# Altium footprint library L2.PcbLib: 11 footprints
Each footprint in its own frame and in the unit in brackets; x right, y up, seen from the top. Pads: shape width x height; smd on the part's side, far side on the other; paste and mask are expansions set on the pad; w line width, h text height; cw(c..) or ccw(c..) is an arc to the next point about the centre after c.
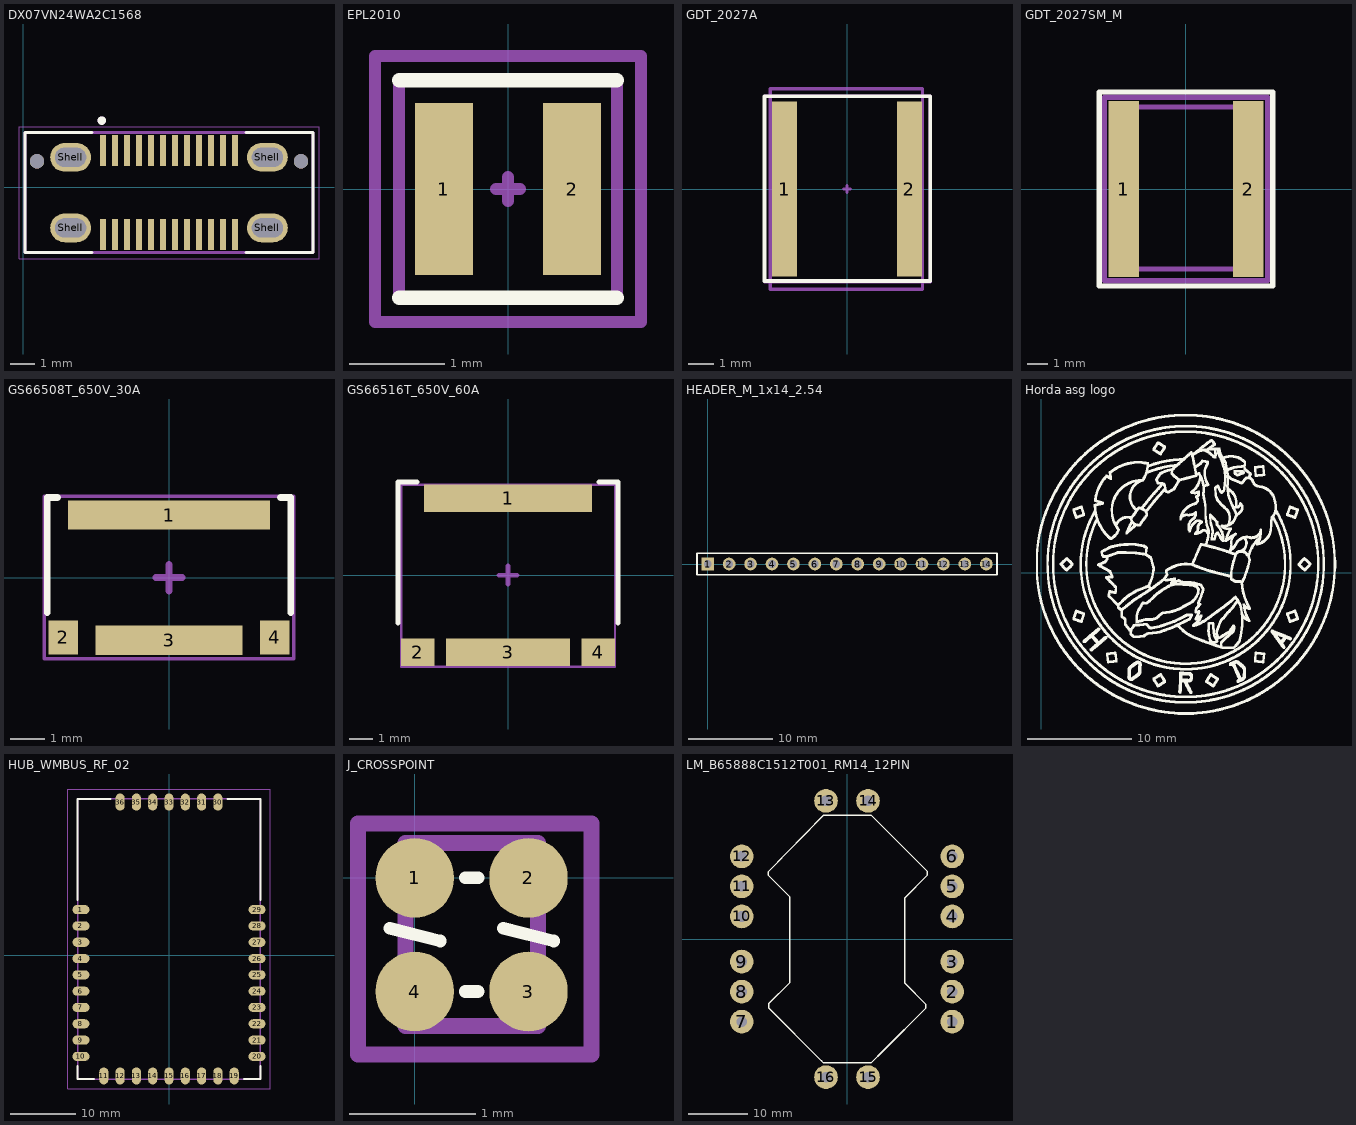
[diagram p0: the footprints below, top view; thin cyan lines are the x and y axes]

## DX07VN24WA2C1568 [mm] "USB Connector Vertical Plug 2 row SMT"
pads (30):
  rect 0.27x1.3 smd: A1(3.319,1.523) A2(3.819,1.523) A3(4.319,1.523) A4(4.819,1.523) A5(5.319,1.523) A6(5.819,1.523) A7(6.319,1.523) A8(6.819,1.523) A9(7.319,1.523) A10(7.819,1.523) A11(8.319,1.523) A12(8.819,1.523) B1(8.819,-1.977) B2(8.319,-1.977) B3(7.819,-1.977) B4(7.319,-1.977) B5(6.819,-1.977) B6(6.319,-1.977) B7(5.819,-1.977) B8(5.319,-1.977) B9(4.819,-1.977) B10(4.319,-1.977) B11(3.819,-1.977) B12(3.319,-1.977)
  round 0.6 hole 0.6 unplated: None(0.569,1.073) None(11.569,1.073)
  oval 1.7x1.2 hole 0.8 slot 1.3 at 0 deg: Shell(1.969,-1.697) Shell(1.969,1.243) Shell(10.169,-1.697) Shell(10.169,1.243)
Top Overlay:
  circle w0.25: c3.269,2.773 r0.05
  lines w0.127: 2.869,-2.727 0.069,-2.727 0.069,2.273 2.869,2.273 ; 9.269,-2.727 12.069,-2.727 12.069,2.273 9.269,2.273
Top 3D Body:
  lines w0: 1.719,-2.097 cw(c1.719,-1.697) 1.719,-1.297 2.219,-1.297 cw(c2.219,-1.697) 2.219,-2.097 1.719,-2.097 ; 1.719,0.843 cw(c1.719,1.243) 1.719,1.643 2.219,1.643 cw(c2.219,1.243) 2.219,0.843 1.719,0.843 ; 9.919,-2.097 cw(c9.919,-1.697) 9.919,-1.297 10.419,-1.297 cw(c10.419,-1.697) 10.419,-2.097 9.919,-2.097 ; 9.919,0.843 cw(c9.919,1.243) 9.919,1.643 10.419,1.643 cw(c10.419,1.243) 10.419,0.843 9.919,0.843
Top Assembly:
  circle w0.25: c3.269,2.773 r0.05
  circle w0.25: c3.269,2.773 r0.05
  lines w0.127: 0.069,-2.727 0.069,2.273 ; 0.069,-2.727 12.069,-2.727 ; 0.069,-2.727 0.069,2.273 ; 0.069,-2.727 12.069,-2.727 ; 0.069,2.273 12.069,2.273 ; 0.069,2.273 12.069,2.273 ; 12.069,-2.727 12.069,2.273 ; 12.069,-2.727 12.069,2.273
Top Courtyard:
  lines w0.05: -0.181,-2.977 -0.181,2.523 12.319,2.523 12.319,-2.977 -0.181,-2.977
3D body "K3D-DX07S024WJ3-V2_JAE_Proprietary.STEP": height 10, standoff -1.8, extent 0.1,-2.8 12.1,2.2

## EPL2010 [mil]
pads (2):
  rect 24x71 smd: 1(-26.5,0) 2(26.5,0)
Top Overlay:
  lines w6: -45,-45 45,-45 ; -45,45 45,45
Mechanical 13:
  lines w5: -45,-45 -45,45 45,45 45,-45 -45,-45
Mechanical 15:
  lines w5: -5,0 5,0 ; 0,-5 0,5 ; -55,-55 -55,55 55,55 55,-55 -55,-55
Mechanical 17:
  text "'.Designator'" at -80,-10 h15
Mechanical 19:
  text "'.Comment'" at -60,-5 h15
3D body "Coilcraft-EPL2010.step": height 41.34, standoff 0, extent -42.94,-43.73 43.53,42.74

## GDT_2027A [mm]
pads (2):
  rect 1x7 smd: 1(-2.5,0) 2(2.5,0)
Top Overlay:
  lines w0.152: -3.302,-3.683 -0.864,-3.683 3.327,-3.683 3.327,3.708 -3.302,3.708 -3.302,-3.683
Mechanical 13:
  lines w0.127: -3.073,-4.013 3.023,-4.013 3.023,4.013 -3.073,4.013 -3.073,-4.013
Mechanical 15:
  lines w0.127: -0.127,0 0.127,0 ; 0,-0.127 0,0.127 ; -3.302,-3.708 3.327,-3.708 3.327,3.708 -3.302,3.708 -3.302,-3.708
Mechanical 17:
  text "'.Designator'" at -1.803,-1.092 h0.38
Mechanical 19:
  text "'.Comment'" at -1.803,-1.092 h0.38
3D body "User Library-GDT.step": height 8.01, standoff -0.01, extent -5.4,-7.949 5.4,4.061

## GDT_2027SM_M [mm]
pads (2):
  rect 1.5x8.6 smd: 1(-3.05,0) 2(3.05,0)
Top Overlay:
  lines w0.254: -4.25,-4.75 4.25,-4.75 4.25,4.75 -4.25,4.75 -4.25,-4.75
Mechanical 13:
  lines w0.254: -3.21,-3.917 3.21,-3.917 3.21,4.013 -3.21,4.013 -3.21,-3.917
Mechanical 15:
  lines w0.254: -4,-4.5 -4,4.5 4,4.5 4,-4.5 -4,-4.5
Mechanical 17:
  text "'.Designator'" at -2.353,-1.092 h0.38
Mechanical 19:
  text "'.Comment'" at -2.353,-1.092 h0.38
3D body "2027-xx-sm.stp": height 7.97, standoff 0.03, extent -3.21,-3.917 3.21,4.013

## GS66508T_650V_30A [mm] "GAN TRANS EMODE 650V 30A TOP SIDE COOL"
height 0.5
pads (4):
  rect 5.81x0.84 smd paste-0.1: 1(0,1.8)
  rect 0.84x0.99 smd paste-0.1: 2(-3.04,-1.72)
  rect 4.24x0.84 smd paste-0.1: 3(0,-1.8)
  rect 0.84x0.99 smd: 4(3.04,-1.72)
Top Overlay:
  lines w0.2: -3.5,-1 -3.5,2.3 -3.2,2.3 ; 3.2,2.3 3.5,2.3 3.5,-1
Bottom Assembly:
  text ".Designator" at -3.404,-0.356 h1.5
Mechanical 9:
  lines w0.1: -3.581,-2.337 3.581,-2.337 3.581,2.337 -3.581,2.337 -3.581,-2.337
Mechanical 10:
  lines w0.1: -3.581,-2.337 -3.581,2.337 3.581,2.337 3.581,-2.337 -3.581,-2.337
  lines w0.2: -0.381,0 0.381,0 ; 0,-0.381 0,0.381
Mechanical 12:
  text ".Comment" at -3.404,-0.356 h1.5
3D body "GS66508T.stp": height 0.5, standoff -0.04, extent -3.468,-2.225 3.468,2.235

## GS66516T_650V_60A [mm] "GAN TRANS EMODE 650V 60A TOP SIDE COOL"
height 0.5
pads (4):
  rect 7.04x1.15 smd: 1(0,3.22)
  rect 1.4x1.15 smd: 2(-3.77,-3.22) 4(3.77,-3.22)
  rect 5.17x1.15 smd: 3(0,-3.22)
Top Overlay:
  lines w0.2: -4.6,-2 -4.6,3.9 -3.8,3.9 ; 3.8,3.9 4.6,3.9 4.6,-2
Mechanical 8:
  text ".Designator" at -4.572,-1.067 h2
Mechanical 10:
  lines w0.1: -4.47,-3.825 -4.47,3.775 4.475,3.775 4.475,-3.825 -4.47,-3.825
Mechanical 11:
  lines w0.1: -4.47,-3.825 4.475,-3.825 4.475,3.775 -4.47,3.775 -4.47,-3.825
  lines w0.2: -0.381,0 0.381,0 ; 0,-0.381 0,0.381
Mechanical 12:
  text ".Comment" at -4.572,-1.067 h2
3D body "GS66516T.stp": height 0.53, standoff -0.01, extent -4.489,-3.835 4.489,3.785

## HEADER_M_1x14_2.54 [mm] "Connector; Header; 19 Position; Male"
pads (14):
  rect 1.5x1.5 hole 0.9: 1(0,0)
  round 1.5 hole 0.9: 2(2.54,0) 3(5.08,0) 4(7.62,0) 5(10.16,0) 6(12.7,0) 7(15.24,0) 8(17.78,0) 9(20.32,0) 10(22.86,0) 11(25.4,0) 12(27.94,0) 13(30.48,0) 14(33.02,0)
Top Overlay:
  lines w0.2: -1.27,-1.27 -1.27,1.27 0.635,1.27 34.29,1.27 34.29,-1.27 -1.27,-1.27
3D body "022284140.stp": height 4.32, standoff -7.24, extent -1.27,-1.244 34.29,1.245

## Horda asg logo [mm]
Top Overlay:
  drawing of 16939 lines, arcs and shapes, not listed

## HUB_WMBUS_RF_02 [mm]
pads (36):
  oval 2.6x1.4 smd: 1(-13.5,7) 2(-13.5,4.5) 3(-13.5,2) 4(-13.5,-0.5) 5(-13.5,-3) 6(-13.5,-5.5) 7(-13.5,-8) 8(-13.5,-10.5) 9(-13.5,-13) 10(-13.5,-15.5) 20(13.5,-15.5) 21(13.5,-13) 22(13.5,-10.5) 23(13.5,-8) 24(13.5,-5.5) 25(13.5,-3) 26(13.5,-0.5) 27(13.5,2) 28(13.5,4.5) 29(13.5,7)
  oval 1.4x2.6 smd: 11(-10,-18.5) 12(-7.5,-18.5) 13(-5,-18.5) 14(-2.5,-18.5) 15(0,-18.5) 16(2.5,-18.5) 17(5,-18.5) 18(7.5,-18.5) 19(10,-18.5) 30(7.5,23.5) 31(5,23.5) 32(2.5,23.5) 33(0,23.5) 34(-2.5,23.5) 35(-5,23.5) 36(-7.5,23.5)
Top Overlay:
  lines w0.305: -14,-17 -14,-19 -11.5,-19 ; -14,8.5 -14,24 -9,24 ; 9,24 14,24 14,8.5 ; 11.5,-19 14,-19 14,-17
Mechanical 13:
  lines w0.2: -14,-19 14,-19 14,24 -14,24 -14,-19
Mechanical 15:
  lines w0.1: -15.5,-20.5 -15.5,25.5 15.5,25.5 15.5,-20.5 -15.5,-20.5
Mechanical 17:
  text "'.Designator'" at -11,-1 h2
Mechanical 19:
  text "'.Comment'" at -11,-1 h2
3D body "hub-wmbus-module-rf-02_z_ekranem_3_5mm.step": height 5.2, standoff 0.1, extent -14,-19 14,24

## J_CROSSPOINT [mm]
pads (4):
  oval 0.62x0.63 smd mask+0.05: 1(0,0) 2(0.9,0) 3(0.9,-0.9) 4(0,-0.9)
Top Overlay:
  region: 1.926,-1.175
  region: 0.577,-1.175
  lines w0.1: -0.2,-0.4 0.2,-0.5 ; 0.4,-0.9 0.5,-0.9 ; 0.4,0 0.5,0 ; 0.7,-0.4 1.1,-0.5
Top 3D Body:
  lines w0.127: -0.075,-1.175 0.975,-1.175 0.975,0.275 -0.075,0.275 -0.075,-1.175
Top Assembly:
  lines w0.127: -0.45,-1.4 1.4,-1.4 1.4,0.432 -0.45,0.432 -0.45,-1.4
3D body "MCS 0402.stp": height 0.32, standoff 0, extent -0.05,-1.15 0.95,-0.65
3D body "MCS 0402.stp": height 0.32, standoff 0, extent -0.05,-0.25 0.95,0.25

## LM_B65888C1512T001_RM14_12PIN [mm]
pads (16):
  round 4 hole 1.8: 1(17.78,-13.97) 2(17.78,-8.89) 3(17.78,-3.81) 4(17.78,3.81) 5(17.78,8.89) 6(17.78,13.97) 7(-17.78,-13.97) 8(-17.78,-8.89) 9(-17.78,-3.81) 10(-17.78,3.81) 11(-17.78,8.89) 12(-17.78,13.97) 13(-3.55,23.35) 14(3.55,23.35) 15(3.55,-23.35) 16(-3.55,-23.35)
Top Overlay:
  lines w0.254: -13.335,10.795 -13.335,11.303 -3.937,20.955 4.064,20.955 13.589,11.43 13.589,10.795 9.779,6.985 9.779,6.717 9.779,-7.493 13.335,-11.049 13.335,-11.684 6.223,-18.796 4.064,-20.955 -3.937,-20.955 -4.286,-20.606 -13.202,-11.69 -13.209,-10.923 -9.652,-7.366 -9.652,7.112 -13.335,10.795
3D body "rm14_B65888C1512T001.stp": height 31.35, standoff -3.45, extent -25.325,-23.565 25.275,23.683